# EAGLE library part IEEE-EDGE (library commodore)
IEEE connector for various Commodore computers, PET/CBM type, edge version
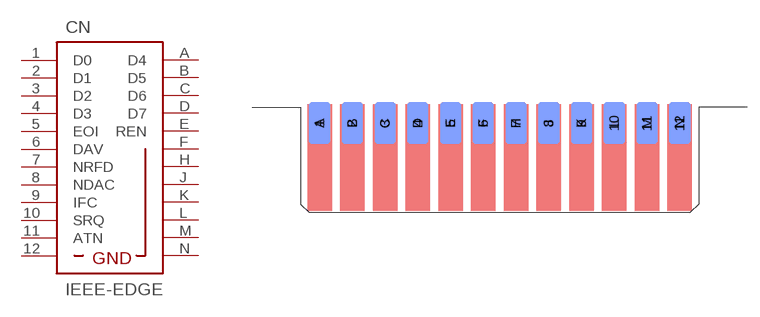
[diagram p52: symbol with the pads of UPS24EDGE; footprint UPS24EDGE]

Designator prefix CN

## IEEE-EDGE  [UPS24EDGE]
1  D0  pas
2  D1  pas
3  D2  pas
4  D3  pas
5  EOI  pas
6  DAV  pas
7  NRFD  pas
8  NDAC  pas
9  IFC  pas
10  SRQ  pas
11  ATN  pas
12  12  pas
A  D4  pas
B  D5  pas
C  D6  pas
D  D7  pas
E  REN  pas
F  18  pas
H  19  pas
J  20  pas
K  21  pas
L  22  pas
M  23  pas
N  24  pas

## Footprint UPS24EDGE (pad centres in mm)
smd 2.54 x 5.08: 1 -21.779,3.68; 2 -17.819,3.68; 3 -13.859,3.68; 4 -9.899,3.68; 5 -5.939,3.68; 6 -1.979,3.68; 7 1.981,3.68; 8 5.941,3.68; 9 9.901,3.68; 10 13.861,3.68; 11 17.821,3.68; 12 21.781,3.68
smd 2.54 x 5.08 bottom: A -21.779,3.68; B -17.819,3.68; C -13.859,3.68; D -9.899,3.68; E -5.939,3.68; F -1.979,3.68; H 1.981,3.68; J 5.941,3.68; K 9.901,3.68; L 13.861,3.68; M 17.821,3.68; N 21.781,3.68